# EAGLE library part AZC099-04S (library e-Lib-DiscreteSemi)
ESD Diode Array - AZC099-04S AZC099-04S is a high performance and low cost design which includes surge rated diode arrays to protect high speed data interfaces. The AZC099-04S family has been specifically designed to protect sensitive components, which are connected to data and transmission lines, from over-voltage caused by Electrostatic Discharging (ESD), Electrical Fast Transients (EFT), and Lightning. Features ESD Protect for 4 high-speed I/O channels Provide ESD protection for each channel to IEC 61000-4-2 (ESD) ±15kV (air), ±15kV (contact) IEC 61000-4-4 (EFT) (5/50ns) 40A IEC 61000-4-5 (Lightning) (8/20µs) 5.5A For low operating voltage applications: 5V, 4.2V, 3.3V, 2.5V Low capacitance : 1.0pF typical Fast turn-on and Low clamping voltage Array of surge rated diodes with internal equivalent TVS diode Small package saves board space Solid-state silicon-avalanche and active circuit triggering technology Datasheet: AZC099-04S <https://datasheet.lcsc.com/szlcsc/1912111437_AMAZING-AZC099-04S-R7G_C385880.pdf>
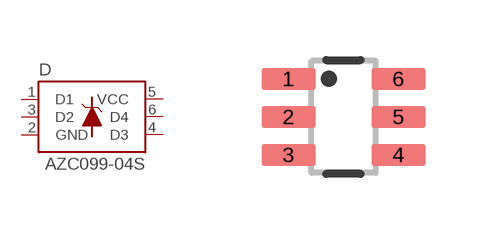
[diagram p0: symbol with the pads of SOT-23-6; footprint SOT-23-6]

Designator prefix D

## AZC099-04S  [SOT-23-6]
1  D1
2  GND
3  D2
4  D3
5  VCC
6  D4

## Footprint SOT-23-6 (pad centres in mm)
smd 1.35 x 0.55: 1 -1.375,0.95; 2 -1.375,0; 3 -1.375,-0.95; 4 1.375,-0.95; 5 1.375,0; 6 1.375,0.95